# EAGLE library part MCP9808 (library n39)
MCP9808: ±0.5°C Maximum AccuracyDigital Temperature Sensor Microchip Technology Inc.’s MCP9808 digital temperature sensor converts temperatures between -20°C and +100°C to a digital word with ±0.25°C/±0.5°C (typical/maximum) accuracy. Datenblatt bei Reichelt <http://www.reichelt.de/index.html?&ACTION=7&LA=3&OPEN=0&INDEX=0&FILENAME=A200%252FDS_MCP9808.pdf>
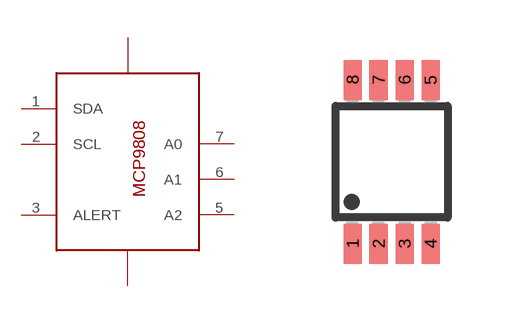
[diagram p11: symbol with the pads of MSOP8; footprint MSOP8]

Designator prefix U

## MCP9808 (REICHELT: MCP 9808-EMS)  [MSOP8]
1  SDA
2  SCL
3  ALERT  out
4  GND  pwr
5  A2  in
6  A1  in
7  A0  in
8  VCC  pwr

## Footprint MSOP8 (pad centres in mm)
Micro Small Outline Package Grid .65mm
smd 0.45 x 1: 1 -0.975,-2.05; 2 -0.325,-2.05; 3 0.325,-2.05; 4 0.975,-2.05; 5 0.975,2.05; 6 0.325,2.05; 7 -0.325,2.05; 8 -0.975,2.05